# EAGLE library part KC43A30.001NPS (library KVB-switches)
Rotary Switch 3 Position 4P3T 350mA (AC) 125VAC Panel Mount Through Hole
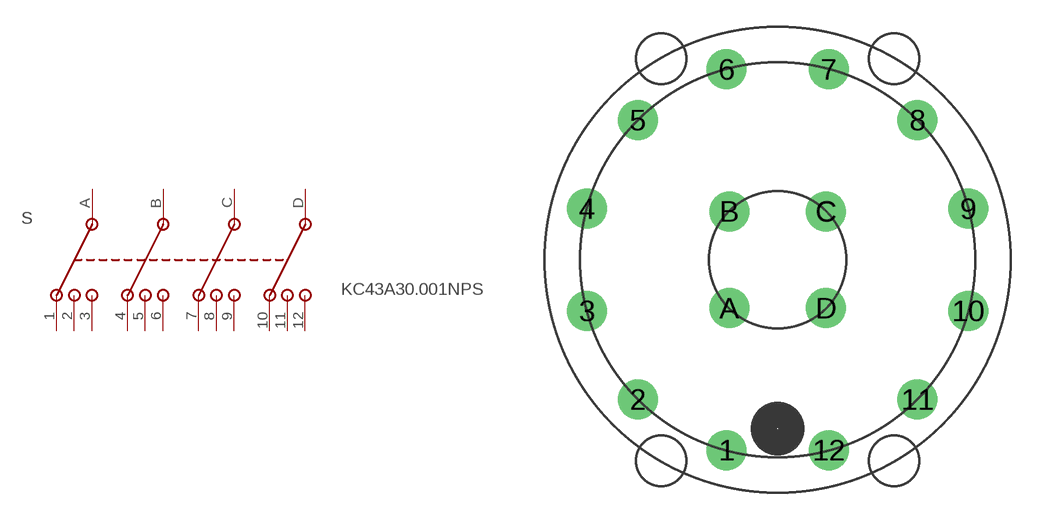
[diagram p0: symbol with the pads of KC43A30.001NPS; footprint KC43A30.001NPS]

Designator prefix S

## KC43A30.001NPS (MAN-PART_NUM: KC43A30.001NPS; MANUFACTURER: E-Switch)  [KC43A30.001NPS]
1  1
2  2
3  3
4  4
5  5
6  6
7  7
8  8
9  9
10  10
11  11
12  12
A  A
B  B
C  C
D  D

## Footprint KC43A30.001NPS (pad centres in mm)
drill 1.5: 1 -2.87,-10.7; 2 -7.85,-7.85; 3 -10.7,-2.87; 4 -10.7,2.87; 5 -7.85,7.85; 6 -2.87,10.7; 7 2.87,10.7; 8 7.85,7.85; 9 10.7,2.87; 10 10.7,-2.87; 11 7.85,-7.85; 12 2.87,-10.7; A -2.72,-2.72; B -2.72,2.72; C 2.72,2.72; D 2.72,-2.72